# EAGLE library part TEA1753 (library nxp_60)
The GreenChip III is the third generation of green Switched Mode Power Supply (SMPS) controller ICs. The GreenChip III combines a controller for Power Factor Correction (PFC) and a flyback controller. Its high level of integration allows the design of a cost-effective power supply with a very low number of external components. AAL Eindhoven MK
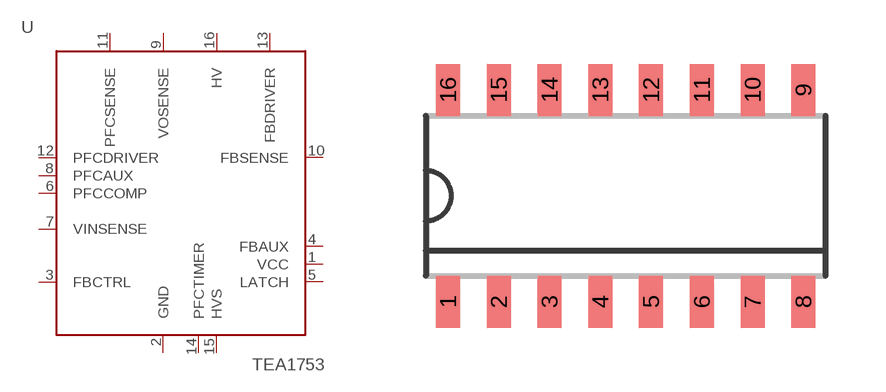
[diagram p41: symbol with the pads of SOT109-1; footprint SOT109-1]

Designator prefix U

## TEA1753T (12NC: 9352 932 05518)  [SOT109-1]
1  VCC
2  GND
3  FBCTRL
4  FBAUX
5  LATCH
6  PFCCOMP
7  VINSENSE
8  PFCAUX
9  VOSENSE
10  FBSENSE
11  PFCSENSE
12  PFCDRIVER
13  FBDRIVER
14  PFCTIMER
15  HVS
16  HV

## Footprint SOT109-1 (pad centres in mm)
SOT109-1 SO16: plastic small outline package; 16 leads; body width 3.9 mm JEDEC: MS-012 IEC: 076E07
smd 0.6 x 1.3: 1 -4.445,-2.65; 2 -3.175,-2.65; 3 -1.905,-2.65; 4 -0.635,-2.65; 5 0.635,-2.65; 6 1.905,-2.65; 7 3.175,-2.65; 8 4.445,-2.65; 9 4.445,2.65; 10 3.175,2.65; 11 1.905,2.65; 12 0.635,2.65; 13 -0.635,2.65; 14 -1.905,2.65; 15 -3.175,2.65; 16 -4.445,2.65